# Altium footprint library APSS Flight Parts.PcbLib: 19 footprints (part 1 of 2)
Each footprint in its own frame and in the unit in brackets; x right, y up, seen from the top. Pads: shape width x height; smd on the part's side, far side on the other; paste and mask are expansions set on the pad; w line width, h text height; cw(c..) or ccw(c..) is an arc to the next point about the centre after c.
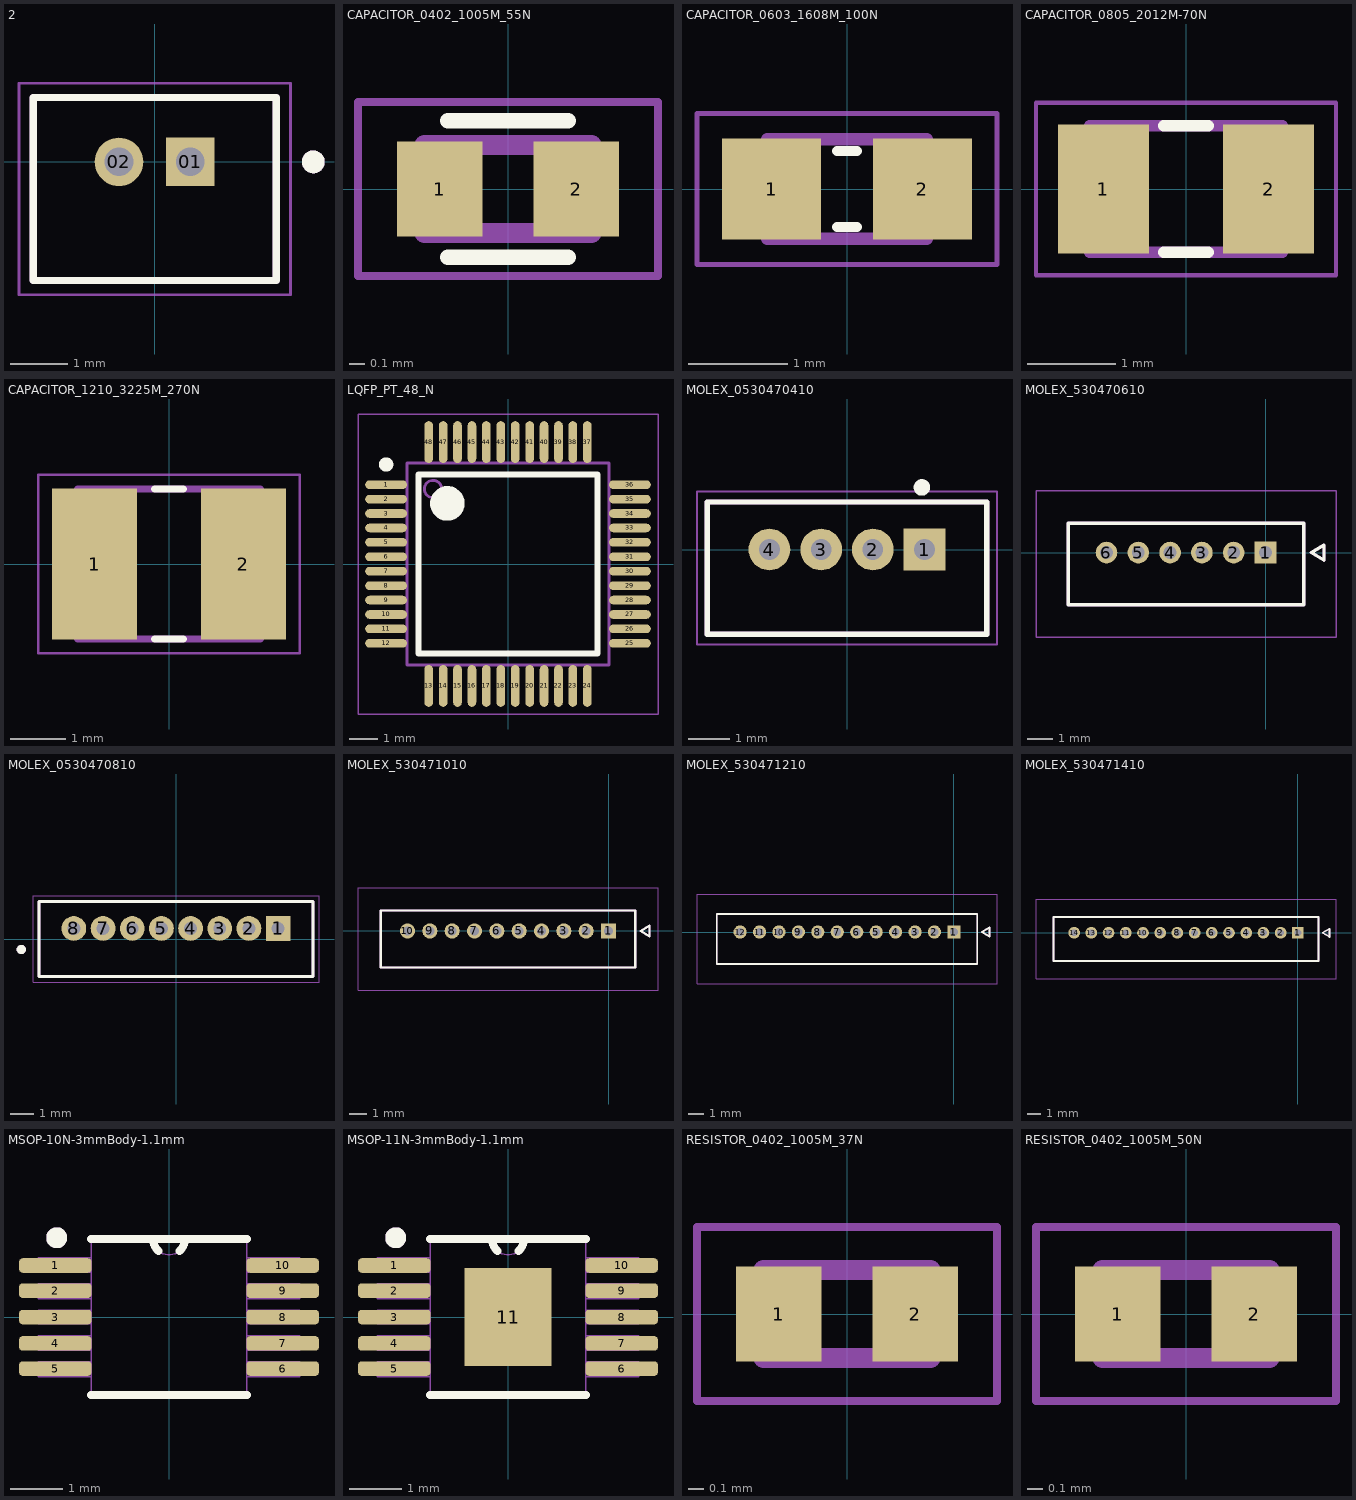
[diagram p0: the footprints below, top view; thin cyan lines are the x and y axes]

## 2 [mm]
pads (2):
  rect 0.85x0.85 / inner round 0.85 / far side rect 0.85x0.85 hole 0.5: 01(0.625,0)
  round 0.85 hole 0.5: 02(-0.625,0)
Top Overlay:
  circle w0.2: c2.775,0 r0.1
  lines w0.127: -2.125,-2.075 2.125,-2.075 2.125,1.125 -2.125,1.125 -2.125,-2.075
Mechanical 13:
  circle w0.2: c2.775,0 r0.1
  lines w0.127: -2.125,-2.075 -2.125,1.125 2.125,1.125 2.125,-2.075 -2.125,-2.075
Mechanical 15:
  lines w0.05: -2.375,-2.325 -2.375,1.375 2.375,1.375 2.375,-2.325 -2.375,-2.325
3D body "530470210.stp": height 4.21, standoff -2.29, extent -2.125,-2.057 2.125,1.143

## CAPACITOR_0402_1005M_55N [mm] "Capacitor, 0402 (1005 metric), 0.55mm height, nominal pads"
height 0.55
pads (2):
  rect 0.54x0.6 smd mask+0.051: 1(-0.432,0) 2(0.432,0)
Top Overlay:
  lines w0.1: -0.381,-0.432 0.381,-0.432 ; -0.381,0.432 0.381,0.432
Mechanical 13:
  lines w0.127: -0.53,-0.28 -0.53,0.28 0.53,0.28 0.53,-0.28 -0.53,-0.28
Mechanical 15:
  lines w0.05: -0.95,-0.55 -0.95,0.55 0.95,0.55 0.95,-0.55 -0.95,-0.55
3D body "GCM1555C1H102FA16D.step": height 0.48, standoff -0.02, extent -0.5,-0.279 0.5,0.271

## CAPACITOR_0603_1608M_100N [mm] "Capacitor, 0603 (1608 metric), 1mm high, nominal pads"
height 1
pads (2):
  rect 1x1.02 smd mask+0.051: 1(-0.759,0) 2(0.759,0)
Top Overlay:
  lines w0.1: -0.102,-0.381 0.102,-0.381 ; -0.102,0.381 0.102,0.381
Mechanical 13:
  lines w0.127: -0.8,-0.5 -0.8,0.5 0.8,0.5 0.8,-0.5 -0.8,-0.5
Mechanical 15:
  lines w0.05: -1.508,-0.758 -1.508,0.758 1.508,0.758 1.508,-0.758 -1.508,-0.758
3D body "GRM188Z71A106KA73D.step": height 0.78, standoff -0.02, extent -0.8,-0.5 0.8,0.5

## CAPACITOR_0805_2012M-70N [mm] "Capacitor, 0805 (2012 metric), 0.7mm high, nominal pads,"
height 0.5
pads (2):
  rect 1.04x1.47 smd mask+0.051: 1(-0.94,0) 2(0.94,0)
Top Overlay:
  lines w0.127: -0.254,-0.72 0.254,-0.72 ; -0.254,0.72 0.254,0.72
Mechanical 13:
  lines w0.127: -1.1,-0.72 1.1,-0.72 1.1,0.72 -1.1,0.72 -1.1,-0.72
Mechanical 15:
  lines w0.05: -1.708,-0.983 1.708,-0.983 1.708,0.983 -1.708,0.983 -1.708,-0.983
3D body "GCM2165C2A122JA16J.STEP": height 1.23, standoff -0.02, extent -1,-0.725 1,0.725

## CAPACITOR_1210_3225M_270N [mm] "Capacitor, 1210 (3225 metric), 2.7mm high, nominal pads"
height 2.7
pads (2):
  rect 1.53x2.72 smd: 1(-1.341,0) 2(1.341,0)
Top Overlay:
  lines w0.127: -0.26,-1.35 0.26,-1.35 ; -0.26,1.35 0.26,1.35
Mechanical 13:
  lines w0.127: -1.651,-1.35 -1.651,1.35 1.651,1.35 1.651,-1.35 -1.651,-1.35
Mechanical 15:
  lines w0.05: -2.355,-1.608 -2.355,1.608 2.355,1.608 2.355,-1.608 -2.355,-1.608
3D body "GRM32ER61A107ME20L.step": height 2.48, standoff -0.02, extent -1.6,-1.397 1.6,1.303

## LQFP_PT_48_N [mm]
pads (48):
  oval 1.45x0.3 smd paste+0 mask+0.051: 1(-4.225,2.75) 2(-4.225,2.25) 3(-4.225,1.75) 4(-4.225,1.25) 5(-4.225,0.75) 6(-4.225,0.25) 7(-4.225,-0.25) 8(-4.225,-0.75) 9(-4.225,-1.25) 10(-4.225,-1.75) 11(-4.225,-2.25) 12(-4.225,-2.75) 25(4.225,-2.75) 26(4.225,-2.25) 27(4.225,-1.75) 28(4.225,-1.25) 29(4.225,-0.75) 30(4.225,-0.25) 31(4.225,0.25) 32(4.225,0.75) 33(4.225,1.25) 34(4.225,1.75) 35(4.225,2.25) 36(4.225,2.75)
  oval 0.3x1.45 smd paste+0 mask+0.051: 13(-2.75,-4.225) 14(-2.25,-4.225) 15(-1.75,-4.225) 16(-1.25,-4.225) 17(-0.75,-4.225) 18(-0.25,-4.225) 19(0.25,-4.225) 20(0.75,-4.225) 21(1.25,-4.225) 22(1.75,-4.225) 23(2.25,-4.225) 24(2.75,-4.225) 37(2.75,4.225) 38(2.25,4.225) 39(1.75,4.225) 40(1.25,4.225) 41(0.75,4.225) 42(0.25,4.225) 43(-0.25,4.225) 44(-0.75,4.225) 45(-1.25,4.225) 46(-1.75,4.225) 47(-2.25,4.225) 48(-2.75,4.225)
Top Overlay:
  circle w0.6: c-2.1,2.1 r0.3
  circle w0.25: c-4.225,3.45 r0.125
  lines w0.2: -3.1,-3.1 3.1,-3.1 3.1,3.1 -3.1,3.1 -3.1,-3.1
Mechanical 13:
  circle w0.1: c-2.6,2.6 r0.3
  lines w0.1: -3.5,-3.5 3.5,-3.5 3.5,3.5 -3.5,3.5 -3.5,-3.5
Mechanical 15:
  lines w0.05: -5.2,-5.2 5.2,-5.2 5.2,5.2 -5.2,5.2 -5.2,-5.2
3D body "MSP430FR2355TPT.STEP": height 1.6, standoff 0, extent -4.5,-4.5 4.5,4.5

## MOLEX_0530470410 [mm]
pads (4):
  rect 1.008x1.008 hole 0.5: 1(1.875,0)
  round 1.008 hole 0.5: 2(0.625,0) 3(-0.625,0) 4(-1.875,0)
Top Overlay:
  circle w0.2: c1.811,1.5 r0.1
  lines w0.127: -3.375,-2.05 -3.375,1.15 3.375,1.15 3.375,-2.05 -3.375,-2.05
Mechanical 13:
  lines w0.127: -3.375,-2.05 -3.375,1.15 3.375,1.15 3.375,-2.05 -3.375,-2.05
Mechanical 15:
  lines w0.05: -3.625,-2.3 -3.625,1.4 3.625,1.4 3.625,-2.3 -3.625,-2.3
3D body "530470410.stp": height 4.21, standoff -2.29, extent -3.375,-2.057 3.375,1.143

## MOLEX_530470610 [mm]
height 4.2
pads (6):
  rect 0.85x0.85 hole 0.5 mask+0.076: 1(0,0)
  round 0.85 hole 0.5 mask+0.076: 2(-1.25,0) 3(-2.5,0) 4(-3.75,0) 5(-5,0) 6(-6.25,0)
Top Overlay:
  lines w0.127: -7.75,-2.05 1.5,-2.05 1.5,1.15 -7.75,1.15 -7.75,-2.05 ; 1.8,0 2.3,-0.3 2.3,0.3 1.8,0
Mechanical 13:
  lines w0.127: -7.75,-2.05 1.5,-2.05 1.5,1.15 -7.75,1.15 -7.75,-2.05 ; 1.8,0 2.3,-0.3 2.3,0.3 1.8,0
  text "PTH D0.5 +/- 0.05" at -8.636,-4.064 h0.5
Mechanical 15:
  lines w0.05: -9.02,-3.32 2.77,-3.32 2.77,2.42 -9.02,2.42 -9.02,-3.32
3D body "530470610.stp": height 4.21, standoff -2.29, extent -7.8,-2.057 1.45,1.143

## MOLEX_0530470810 [mm]
pads (8):
  rect 1.058x1.058 hole 0.55: 1(4.375,0.45)
  round 1.058 hole 0.55: 2(3.125,0.45) 3(1.875,0.45) 4(0.625,0.45) 5(-0.625,0.45) 6(-1.875,0.45) 7(-3.125,0.45) 8(-4.375,0.45)
Top Overlay:
  circle w0.2: c-6.625,-0.45 r0.1
  lines w0.127: -5.875,-1.6 5.875,-1.6 5.875,1.6 -5.875,1.6 -5.875,-1.6
Mechanical 13:
  circle w0.2: c-6.625,-0.45 r0.1
  lines w0.127: -5.875,-1.6 5.875,-1.6 5.875,1.6 -5.875,1.6 -5.875,-1.6
Mechanical 15:
  lines w0.05: -6.125,-1.85 6.125,-1.85 6.125,1.85 -6.125,1.85 -6.125,-1.85
3D body "step_temp.STEP": height 4.2, standoff -2.3, extent -5.875,-1.6 5.875,1.6

## MOLEX_530471010 [mm]
height 4.2
pads (10):
  rect 0.85x0.85 hole 0.5 mask+0.076: 1(0,0)
  round 0.85 hole 0.5 mask+0.076: 2(-1.25,0) 3(-2.5,0) 4(-3.75,0) 5(-5,0) 6(-6.25,0) 7(-7.5,0) 8(-8.75,0) 9(-10,0) 10(-11.25,0)
Top Overlay:
  lines w0.127: -12.75,-2.05 1.5,-2.05 1.5,1.15 -12.75,1.15 -12.75,-2.05 ; 1.8,0 2.3,-0.3 2.3,0.3 1.8,0
Mechanical 13:
  lines w0.127: -12.75,-2.05 1.5,-2.05 1.5,1.15 -12.75,1.15 -12.75,-2.05 ; 1.8,0 2.3,-0.3 2.3,0.3 1.8,0
Mechanical 15:
  lines w0.05: -14.02,-3.32 2.77,-3.32 2.77,2.42 -14.02,2.42 -14.02,-3.32
3D body "530471010.stp": height 4.21, standoff -2.29, extent -12.713,-2.032 1.537,1.168

## MOLEX_530471210 [mm]
height 4.2
pads (12):
  rect 0.85x0.85 hole 0.5 mask+0.076: 1(0,0)
  round 0.85 hole 0.5 mask+0.076: 2(-1.25,0) 3(-2.5,0) 4(-3.75,0) 5(-5,0) 6(-6.25,0) 7(-7.5,0) 8(-8.75,0) 9(-10,0) 10(-11.25,0) 11(-12.5,0) 12(-13.75,0)
Top Overlay:
  lines w0.127: -15.25,-2.05 1.5,-2.05 1.5,1.15 -15.25,1.15 -15.25,-2.05 ; 1.8,0 2.3,-0.3 2.3,0.3 1.8,0
Mechanical 13:
  lines w0.127: -15.25,-2.05 1.5,-2.05 1.5,1.15 -15.25,1.15 -15.25,-2.05 ; 1.8,0 2.3,-0.3 2.3,0.3 1.8,0
Mechanical 15:
  lines w0.05: -16.52,-3.32 2.77,-3.32 2.77,2.42 -16.52,2.42 -16.52,-3.32
3D body "530471210.stp": height 4.21, standoff -2.29, extent -15.233,-2.032 1.517,1.168

## MOLEX_530471410 [mm]
height 4.2
pads (14):
  rect 0.85x0.85 hole 0.5 mask+0.076: 1(0,0)
  round 0.85 hole 0.5 mask+0.076: 2(-1.25,0) 3(-2.5,0) 4(-3.75,0) 5(-5,0) 6(-6.25,0) 7(-7.5,0) 8(-8.75,0) 9(-10,0) 10(-11.25,0) 11(-12.5,0) 12(-13.75,0) 13(-15,0) 14(-16.25,0)
Top Overlay:
  lines w0.127: -17.75,-2.05 1.5,-2.05 1.5,1.15 -17.75,1.15 -17.75,-2.05 ; 1.8,0 2.3,-0.3 2.3,0.3 1.8,0
Mechanical 13:
  lines w0.127: -17.75,-2.05 1.5,-2.05 1.5,1.15 -17.75,1.15 -17.75,-2.05 ; 1.8,0 2.3,-0.3 2.3,0.3 1.8,0
Mechanical 15:
  lines w0.05: -19.02,-3.32 2.77,-3.32 2.77,2.42 -19.02,2.42 -19.02,-3.32
3D body "530471410.stp": height 4.21, standoff -2.29, extent -17.726,-2.032 1.524,1.168

## MSOP-10N-3mmBody-1.1mm [mil] "MSOP-10, 3mm body width, 1.1mm high, nominal pads"
height 43.31
pads (10):
  rrect50% 55x11 smd mask+2: 1(-86,39) 2(-86,20) 3(-86,0) 4(-86,-20) 5(-86,-39) 6(86,-39) 7(86,-20) 8(86,0) 9(86,20) 10(86,39)
Top Overlay:
  circle w7.87: c-85,60 r3.94
  lines w6: -59,-59 59,-59 ; -59,59 -12,59 ; -7.99,49.99 cw(c0.11,58.99) -12,58.99 ; 7.99,49.99 ccw(c-0.11,58.99) 12,58.99 ; 59,59 12,59 ; -12,59 12,59
Mechanical 13:
  circle w7.87: c-85,60 r3.94
  lines w1: -99,-45 -99,-34 ; -99,-45 -59,-45 ; -99,-45 -99,-34 ; -99,-45 -59,-45 ; -99,-34 -59,-34 ; -99,-34 -59,-34 ; -99,-25 -99,-14 ; -99,-25 -59,-25 ; -99,-25 -99,-14 ; -99,-25 -59,-25 ; -99,-14 -59,-14 ; -99,-14 -59,-14 ; -99,-5 -99,5 ; -99,-5 -59,-5 ; -99,-5 -99,5 ; -99,-5 -59,-5 ; -99,5 -59,5 ; -99,5 -59,5 ; -99,14 -99,25 ; -99,14 -59,14 ; -99,14 -99,25 ; -99,14 -59,14 ; -99,25 -59,25 ; -99,25 -59,25 ; -99,34 -99,45 ; -99,34 -59,34 ; -99,34 -99,45 ; -99,34 -59,34 ; -99,45 -59,45 ; -99,45 -59,45 ; -59,-59 59,-59 ; -59,-59 -59,59 ; -59,-59 59,-59 ; -59,-59 -59,59 ; -59,-45 -59,-34 ; -59,-45 -59,-34 ; -59,-25 -59,-14 ; -59,-25 -59,-14 ; -59,-5 -59,5 ; -59,-5 -59,5 ; -59,14 -59,25 ; -59,14 -59,25 ; -59,34 -59,45 ; -59,34 -59,45 ; -59,59 -12,59 ; -59,59 -12,59 ; -12,59 ccw(c0,59) 12,59 ; -12,59 ccw(c0,59) 12,59 ; -12,59 12,59 ; -12,59 12,59 ; 12,59 59,59 ; 12,59 59,59 ; 59,-59 59,59 ; 59,-59 59,59 ; 59,-45 59,-34 ; 59,-45 99,-45 ; 59,-45 59,-34 ; 59,-45 99,-45 ; 59,-34 99,-34 ; 59,-34 99,-34 ; 59,-25 59,-14 ; 59,-25 99,-25 ; 59,-25 59,-14 ; 59,-25 99,-25 ; 59,-14 99,-14 ; 59,-14 99,-14 ; 59,-5 59,5 ; 59,-5 99,-5 ; 59,-5 59,5 ; 59,-5 99,-5 ; 59,5 99,5 ; 59,5 99,5 ; 59,14 59,25 ; 59,14 99,14 ; 59,14 59,25 ; 59,14 99,14 ; 59,25 99,25 ; 59,25 99,25 ; 59,34 59,45 ; 59,34 99,34 ; 59,34 59,45 ; 59,34 99,34 ; 59,45 99,45 ; 59,45 99,45 ; 99,-45 99,-34 ; 99,-45 99,-34 ; 99,-25 99,-14 ; 99,-25 99,-14 ; 99,-5 99,5 ; 99,-5 99,5 ; 99,14 99,25 ; 99,14 99,25 ; 99,34 99,45 ; 99,34 99,45
3D body "AD5162BRMZ2.5-RL7.step": height 43.31, standoff 0, extent -96.46,-59.06 96.46,59.06

## MSOP-11N-3mmBody-1.1mm [mil] "MSOP-10 with power pad, 3mm body width, 1.1mm high, nominal pads"
height 43.31
pads (11):
  rrect50% 55x11 smd mask+2: 1(-86,39) 2(-86,20) 3(-86,0) 4(-86,-20) 5(-86,-39) 6(86,-39) 7(86,-20) 8(86,0) 9(86,20) 10(86,39)
  rect 66x74 smd mask+2: 11(0,0)
Top Overlay:
  circle w7.87: c-85,60 r3.94
  lines w6: -59,-59 59,-59 ; -59,59 -12,59 ; -7.99,49.99 cw(c0.11,58.99) -12,58.99 ; 7.99,49.99 ccw(c-0.11,58.99) 12,58.99 ; 59,59 12,59 ; -12,59 12,59
Mechanical 13:
  circle w7.87: c-85,60 r3.94
  lines w1: -99,-45 -59,-45 ; -99,-45 -99,-34 ; -99,-45 -59,-45 ; -99,-45 -99,-34 ; -99,-34 -59,-34 ; -99,-34 -59,-34 ; -99,-25 -59,-25 ; -99,-25 -99,-14 ; -99,-25 -59,-25 ; -99,-25 -99,-14 ; -99,-14 -59,-14 ; -99,-14 -59,-14 ; -99,-5 -59,-5 ; -99,-5 -99,5 ; -99,-5 -59,-5 ; -99,-5 -99,5 ; -99,5 -59,5 ; -99,5 -59,5 ; -99,14 -59,14 ; -99,14 -99,25 ; -99,14 -59,14 ; -99,14 -99,25 ; -99,25 -59,25 ; -99,25 -59,25 ; -99,34 -59,34 ; -99,34 -99,45 ; -99,34 -59,34 ; -99,34 -99,45 ; -99,45 -59,45 ; -99,45 -59,45 ; -59,-59 -59,59 ; -59,-59 59,-59 ; -59,-59 -59,59 ; -59,-59 59,-59 ; -59,-45 -59,-34 ; -59,-45 -59,-34 ; -59,-25 -59,-14 ; -59,-25 -59,-14 ; -59,-5 -59,5 ; -59,-5 -59,5 ; -59,14 -59,25 ; -59,14 -59,25 ; -59,34 -59,45 ; -59,34 -59,45 ; -59,59 -12,59 ; -59,59 -12,59 ; -12,59 ccw(c0,59) 12,59 ; -12,59 ccw(c0,59) 12,59 ; -12,59 12,59 ; -12,59 12,59 ; 12,59 59,59 ; 12,59 59,59 ; 59,-59 59,59 ; 59,-59 59,59 ; 59,-45 99,-45 ; 59,-45 59,-34 ; 59,-45 99,-45 ; 59,-45 59,-34 ; 59,-34 99,-34 ; 59,-34 99,-34 ; 59,-25 99,-25 ; 59,-25 59,-14 ; 59,-25 99,-25 ; 59,-25 59,-14 ; 59,-14 99,-14 ; 59,-14 99,-14 ; 59,-5 99,-5 ; 59,-5 59,5 ; 59,-5 99,-5 ; 59,-5 59,5 ; 59,5 99,5 ; 59,5 99,5 ; 59,14 99,14 ; 59,14 59,25 ; 59,14 99,14 ; 59,14 59,25 ; 59,25 99,25 ; 59,25 99,25 ; 59,34 99,34 ; 59,34 59,45 ; 59,34 99,34 ; 59,34 59,45 ; 59,45 99,45 ; 59,45 99,45 ; 99,-45 99,-34 ; 99,-45 99,-34 ; 99,-25 99,-14 ; 99,-25 99,-14 ; 99,-5 99,5 ; 99,-5 99,5 ; 99,14 99,25 ; 99,14 99,25 ; 99,34 99,45 ; 99,34 99,45
3D body "LTC2634HMSE-HZ12PBF.step": height 43.31, standoff 0, extent -96.46,-59.06 96.46,59.06

## RESISTOR_0402_1005M_37N [mm] "Resistor, 0402 (1005 metric), 0.37mm height, nominal pads"
height 0.37
pads (2):
  rect 0.54x0.6 smd mask+0.051: 1(-0.432,0) 2(0.432,0)
Mechanical 13:
  lines w0.127: -0.53,-0.28 -0.53,0.28 0.53,0.28 0.53,-0.28 -0.53,-0.28
Mechanical 15:
  lines w0.05: -0.95,-0.55 -0.95,0.55 0.95,0.55 0.95,-0.55 -0.95,-0.55
3D body "RE0402BRE07560KL.step": height 0.37, standoff 0, extent -0.5,-0.25 0.5,0.25

## RESISTOR_0402_1005M_50N [mm] "Resistor, 0402 (1005 metric), 0.5mm height, nominal pads"
height 0.5
pads (2):
  rect 0.54x0.6 smd mask+0.051: 1(-0.432,0) 2(0.432,0)
Mechanical 13:
  lines w0.127: -0.53,-0.28 -0.53,0.28 0.53,0.28 0.53,-0.28 -0.53,-0.28
Mechanical 15:
  lines w0.05: -0.95,-0.55 -0.95,0.55 0.95,0.55 0.95,-0.55 -0.95,-0.55
3D body "NCP15XH103F03RC.step": height 0.48, standoff -0.02, extent -0.475,-0.279 0.525,0.271